# Altium footprint library SOD123.PcbLib: 1 footprints
Each footprint in its own frame and in the unit in brackets; x right, y up, seen from the top. Pads: shape width x height; smd on the part's side, far side on the other; paste and mask are expansions set on the pad; w line width, h text height; cw(c..) or ccw(c..) is an arc to the next point about the centre after c.
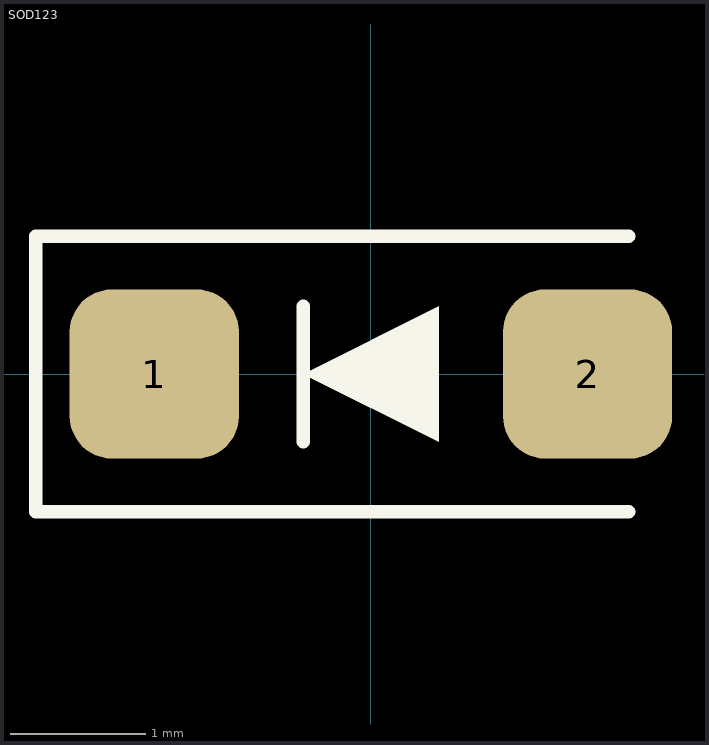
[diagram p0: the footprint, top view; thin cyan lines are the x and y axes]

## SOD123 [mm]
height 1.6
pads (2):
  rrect50% 1.25x1.25 smd: 1(-1.6,0) 2(1.6,0)
Top Overlay:
  region: 0.5,-0.5 -0.5,0 0.5,0.5
  lines w0.1: -0.5,-0.5 -0.5,0.5 ; 1.905,-1.016 -2.475,-1.016 -2.475,1.016 1.905,1.016
3D body "SOD123.STEP": height 1.18, standoff 0, extent -1.95,-0.9 1.95,0.9